# EAGLE library part XR-T66100 (library exar)
Caller ID RECEIVER
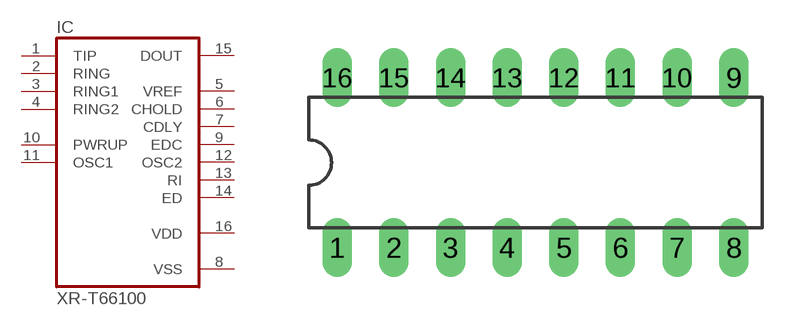
[diagram p42: symbol with the pads of DIL16; footprint DIL16]

Designator prefix IC

## XR-T66100 (OC_FARNELL: unknown; OC_NEWARK: unknown)  [DIL16]
1  TIP  in
2  RING  in
3  RING1  in
4  RING2  in
5  VREF  out
6  CHOLD  out
7  CDLY  out
8  VSS  pwr
9  EDC  out
10  PWRUP  in
11  OSC1  in
12  OSC2  out
13  RI  out
14  ED  out
15  DOUT  out
16  VDD  pwr

## Footprint DIL16 (pad centres in mm)
Dual In Line Package
drill 0.813 long: 1 -8.89,-3.81; 2 -6.35,-3.81; 3 -3.81,-3.81; 4 -1.27,-3.81; 5 1.27,-3.81; 6 3.81,-3.81; 7 6.35,-3.81; 8 8.89,-3.81; 9 8.89,3.81; 10 6.35,3.81; 11 3.81,3.81; 12 1.27,3.81; 13 -1.27,3.81; 14 -3.81,3.81; 15 -6.35,3.81; 16 -8.89,3.81